# Altium schematic symbol library SCH - POWER - SWITCHMODE - TI TPS61195_RUY_28.SchLib: 1 symbol
Pins are listed as number, name and electrical type; pins without a type are passive.

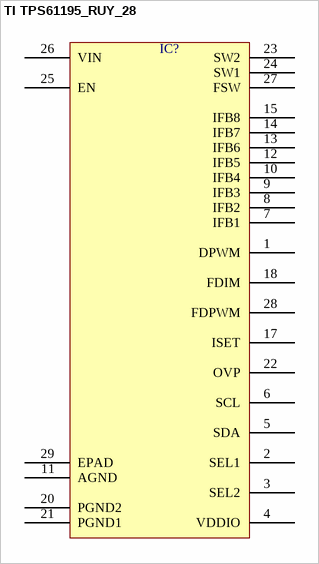
[diagram p0: symbol TI TPS61195_RUY_28]

## TI TPS61195_RUY_28
designator IC?  (value not drawn)
pins: 1 DPWM, 2 SEL1, 3 SEL2, 4 VDDIO, 5 SDA, 6 SCL, 7 IFB1, 8 IFB2, 9 IFB3, 10 IFB4, 11 AGND, 12 IFB5, 13 IFB6, 14 IFB7, 15 IFB8, 17 ISET, 18 FDIM, 20 PGND2, 21 PGND1, 22 OVP, 23 SW2, 24 SW1, 25 EN, 26 VIN, 27 FSW, 28 FDPWM, 29 EPAD